# EAGLE library part AT26DF321 (library AniBike_Common_Library)
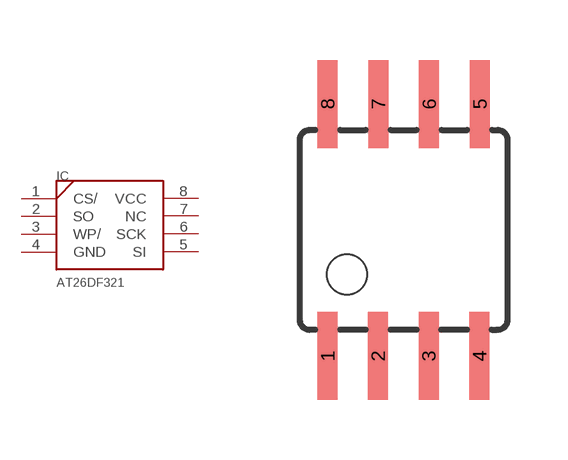
[diagram p2: symbol with the pads of SOIC8; footprint SOIC8]

Designator prefix IC

## AT26DF321  [SOIC8]
1  CS/
2  SO
3  WP/
4  GND  pwr
5  SI
6  SCK
7  NC  nc
8  VCC  pwr

## Footprint SOIC8 (pad centres in mm)
Wide Plastic Gull Wing Small Outline Package
smd 0.5 x 2.2: 1 -1.905,-3.154; 2 -0.645,-3.154; 3 0.625,-3.154; 4 1.895,-3.154; 5 1.905,3.154; 6 0.635,3.154; 7 -0.635,3.154; 8 -1.905,3.154